# EAGLE library part AD5245 (library AnalogDevices-DigiPot)
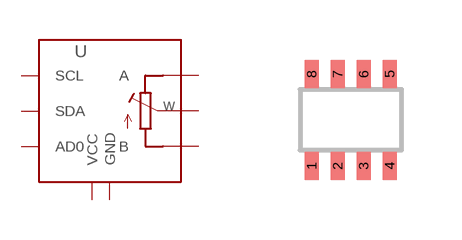
[diagram p0: symbol with the pads of SOT23-8; footprint SOT23-8]

Designator prefix -

## AD5245  [SOT23-8]
1  W
2  VCC
3  GND
4  SCL
5  SDA
6  AD0
7  B
8  A

## Footprint SOT23-8 (pad centres in mm)
smd 0.35 x 0.7: 1 -0.975,-1.15; 2 -0.325,-1.15; 3 0.325,-1.15; 4 0.975,-1.15; 5 0.975,1.15; 6 0.325,1.15; 7 -0.325,1.15; 8 -0.975,1.15